# EAGLE library part ALTERA_EPC2X (library ##eigene)
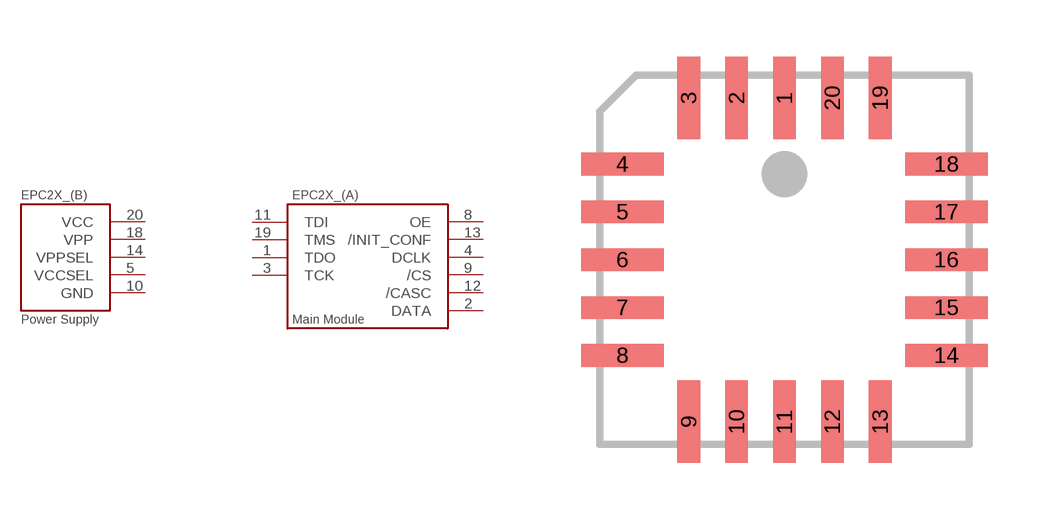
[diagram p3: symbol with the pads of PLCC20; footprint PLCC20]

Designator prefix EPC2X_; gates (A)=ALTERA_EPC2X_MAIN (B)=ALTERA_EPC2X_POWER

## ALTERA_EPC2X  [PLCC20]
1  (A):TDO  out
2  (A):DATA  out
3  (A):TCK
4  (A):DCLK
5  (B):VCCSEL  pwr
6  (B):NC  nc
7  (B):NC  nc
8  (A):OE
9  (A):/CS  out
10  (B):GND  pwr
11  (A):TDI
12  (A):/CASC  out
13  (A):/INIT_CONF
14  (B):VPPSEL  pwr
15  (B):NC  nc
16  (B):NC  nc
17  (B):NC  nc
18  (B):VPP  pwr
19  (A):TMS
20  (B):VCC  pwr

## Footprint PLCC20 (pad centres in mm)
PLASTIC LEADED CHIP CARRIER square, package type L
smd 0.6 x 2.2: 1 0,4.3; 2 -1.27,4.3; 3 -2.54,4.3; 9 -2.54,-4.3; 10 -1.27,-4.3; 11 0,-4.3; 12 1.27,-4.3; 13 2.54,-4.3; 19 2.54,4.3; 20 1.27,4.3
smd 2.2 x 0.6: 4 -4.3,2.54; 5 -4.3,1.27; 6 -4.3,0; 7 -4.3,-1.27; 8 -4.3,-2.54; 14 4.3,-2.54; 15 4.3,-1.27; 16 4.3,0; 17 4.3,1.27; 18 4.3,2.54